# Altium schematic symbol library test.SchLib: 2 symbols
Pins are listed as number, name and electrical type; pins without a type are passive.

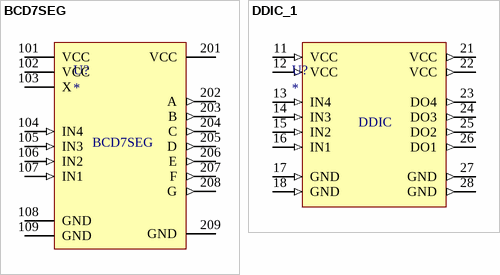
[diagram p0: symbols BCD7SEG to DDIC_1]

## BCD7SEG
designator U?
footprint BCD7SEG
pins: 101 VCC (power), 102 VCC (power), 103 X, 104 IN4 (in), 105 IN3 (in), 106 IN2 (in), 107 IN1 (in), 108 GND (power), 109 GND (power), 201 VCC (power), 202 A (out), 203 B (out), 204 C (out), 205 D (out), 206 E (out), 207 F (out), 208 G (out), 209 GND (power)

## DDIC_1
designator U?
footprint DDIC
pins: 11 VCC (in), 12 VCC (in), 13 IN4 (in), 14 IN3 (in), 15 IN2 (in), 16 IN1 (in), 17 GND (in), 18 GND (in), 21 VCC (out), 22 VCC (out), 23 DO4 (out), 24 DO3 (out), 25 DO2 (out), 26 DO1 (out), 27 GND (out), 28 GND (out)
text: DDIC